# Altium footprint library LESD8D3.3CAT5G.PcbLib: 1 footprints
Each footprint in its own frame and in the unit in brackets; x right, y up, seen from the top. Pads: shape width x height; smd on the part's side, far side on the other; paste and mask are expansions set on the pad; w line width, h text height; cw(c..) or ccw(c..) is an arc to the next point about the centre after c.
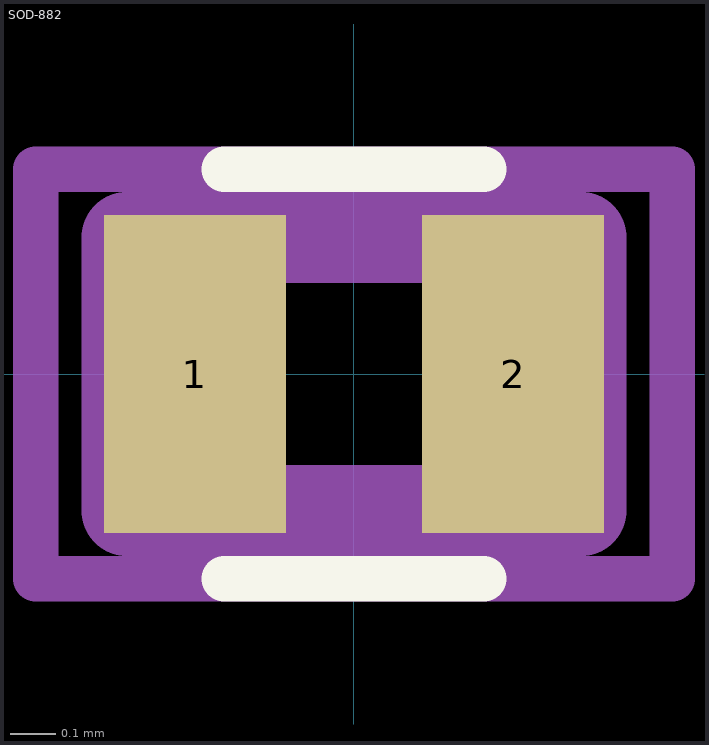
[diagram p0: the footprint, top view; thin cyan lines are the x and y axes]

## SOD-882 [mm]
pads (2):
  rect 0.4x0.7 smd: 1(-0.35,0) 2(0.35,0)
Top Overlay:
  lines w0.1: -0.286,-0.45 0.286,-0.45 ; -0.286,0.45 0.286,0.45
Top 3D Body:
  lines w0.2: -0.5,-0.3 0.5,-0.3 0.5,0.3 -0.5,0.3 -0.5,-0.3
Top Courtyard:
  lines w0.1: -0.7,-0.45 0.7,-0.45 0.7,0.45 -0.7,0.45 -0.7,-0.45
3D body "SOD-882.STEP": height 0.48, standoff 0, extent -0.5,-0.3 0.5,0.3